# Altium footprint library Diode_brige.PcbLib: 1 footprints
Each footprint in its own frame and in the unit in brackets; x right, y up, seen from the top. Pads: shape width x height; smd on the part's side, far side on the other; paste and mask are expansions set on the pad; w line width, h text height; cw(c..) or ccw(c..) is an arc to the next point about the centre after c.
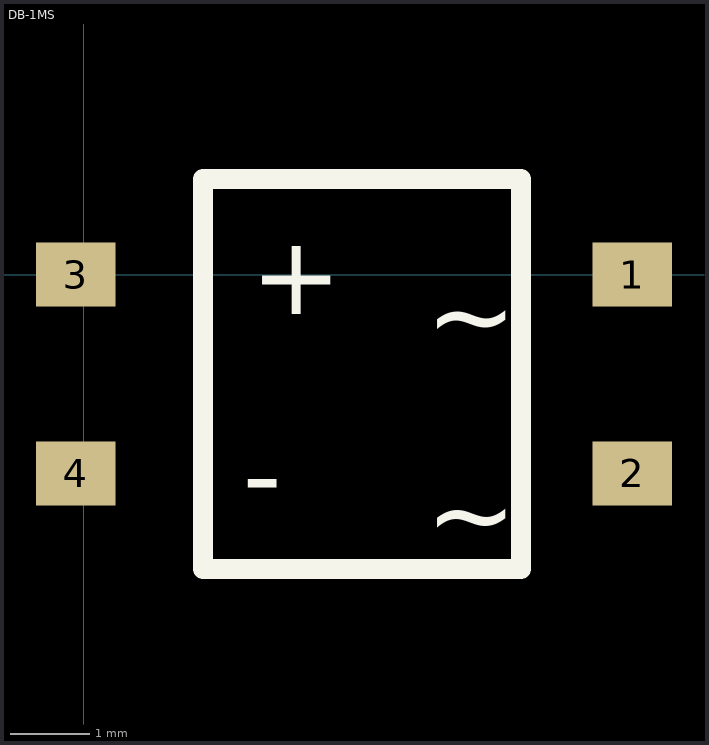
[diagram p0: the footprint, top view; thin cyan lines are the x and y axes]

## DB-1MS [mm]
pads (4):
  rect 1x0.8 smd: 1(6.9,0) 2(6.9,-2.5) 3(-0.1,0) 4(-0.1,-2.5)
Top Overlay:
  lines w0.254: 1.5,-3.7 5.5,-3.7 5.5,1.2 1.5,1.2 1.5,-3.7
  text "+" at 2.1,-0.5 h1
  text "-" at 2,-3 h1
  text "~" at 4.3,-1 h1
  text "~" at 4.3,-3.5 h1
3D body "User Library-DB1-MS.STEP": height 2.9, standoff 0, extent -0.4,-3.7 7.2,1.2